# Altium schematic symbol library stm32.SchLib: 24 symbols
Pins are listed as number, name and electrical type; pins without a type are passive.

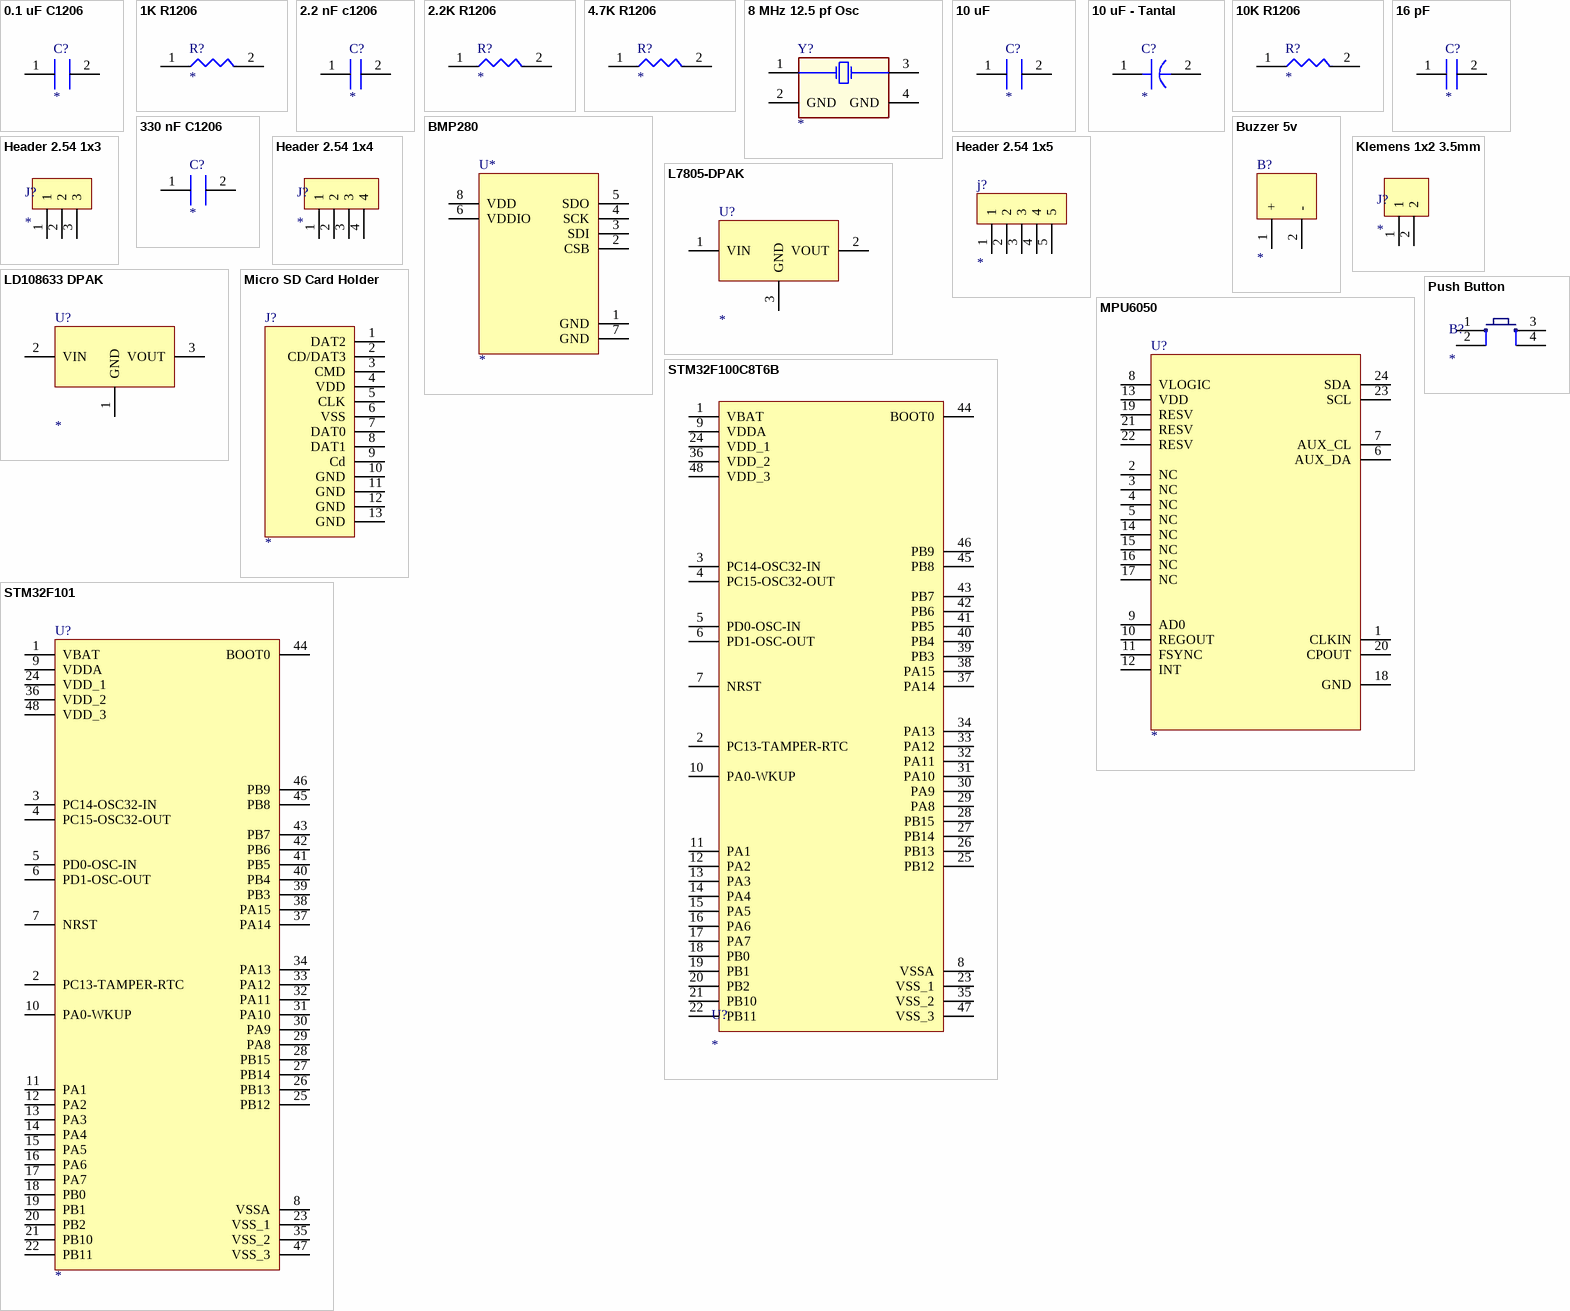
[diagram p0: symbols 0.1 uF C1206 to STM32F101]

## 0.1 uF C1206
designator C?
CAP CER 0.1UF 50V X7R 1206; Manufacturer: KEMET; Part Number: 399-C1206C104K5RAC7800TR-ND; Operating Temperature: -55°C ~ 125°C; Value: 0.1 uF; Price: $0.10
footprint C1206
pins: 1, 2

## 1K R1206
designator R?
CPF 1206 1R0 0.1% 25PPM 1K RL; Manufacturer: TE Connectivity Passive Product; Part Number: 1712-CPF1206B1R0E1TR-ND - Tape & Reel (TR); Operating Temperature: -55°C ~ 155°C; Price: $0.78; Value: 1K
footprint R1206 RESISTOR
pins: 1, 2

## 2.2 nF c1206
designator C?
CAP CER 2200PF 50V C0G/NP0 1206; Manufacturer: KEMET; Part Number: 399-C1206C222G5GAC7800TR-ND; Value: 2.2 nF; Operating Temperature: -55°C ~ 125°C; Price: $1.06
footprint C1206
pins: 1, 2

## 2.2K R1206
designator R?
CPF 1206 2R21 0.1% 25PPM 1K RL; Manufacturer: TE Connectivity Passive Product; Part Number: 1712-CPF1206B2R21E1TR-ND - Tape & Reel (TR); Value: 2.2K; Operating Temperature: -55°C ~ 155°C; Price: $0.78
footprint R1206 RESISTOR
pins: 1, 2

## 4.7K R1206
designator R?
CPF 1206 4R64 0.1% 25PPM 1K RL; Manufacturer: TE Connectivity Passive Product; Part Number: 1712-CPF1206B4R64E1TR-ND - Tape & Reel (TR); Value: 4.7K; Operating Temperature: -55°C ~ 155°C; Price: $0.78
footprint R1206 RESISTOR
pins: 1, 2

## 8 MHz 12.5 pf Osc
designator Y?
CRYSTAL 8MHZ 12.5pF SMD TR RALTRON; Part Number: RH100-8.000-12.5-20150-E; Opeating Temperature: -40°C~+85°C; Manufacturer: RALTRON; Price: $0.56
footprint 8 MHZ Osc.
pins: 1 (power) "Regulator Input Supply. Bypass IN to GND with a 1 uF or greater capacitor.", 2 GND (power) "Ground.", 3 "Enable Input. Drive EN high to turn on the regulator; drive it low to turn off the regulator. For automatic startup, connect EN to IN.", 4 GND "Connect a 1 nF or greater capacitor (10 nF is recommended) between BYP and GND to reduce the internal reference noise for low noise applications."

## 10 uF
designator C?
CAP CER 10UF 16V X7R 1206; Manufacturer: KEMET; Part Number: 399-C1206X106J4RACAUTOTR-ND; Operating Temperature: -55°C ~ 125°C; Price: $2.30; Value: 10 uF
footprint C1206
pins: 1, 2

## 10 uF - Tantal
designator C?
CAP.TANTAL 10UF 20V 20% A CASE (3216); Manufacturer: KEMET; Part Number: 399-5152-2-ND; Operating Temperature: -55°C~+125°C; Price: $0.35; Value: 10 uF
footprint C1206 - TANTAL
pins: 1, 2

## 10K R1206
designator R?
RQ 0805 10R 0.1% 10PPM 1K RL; Manufacturer: TE Connectivity Passive Product; Part Number: 1712-RQ73C2A10RBTDFTR-ND - Tape & Reel (TR); Value: 10K; Operating Temperature: -55°C ~ 155°C; Price: $1.14
footprint R1206 RESISTOR
pins: 1, 2

## 16 pF
designator C?
CAP CER 16PF 50V NP0 1206; Manufacturer: KEMET; Part Number: 399-17465-2-ND; Operating Temperature: -55°C ~ 125°C; Price: $0.41; Value: 16 pF
footprint C1206
pins: 1, 2

## 330 nF C1206
designator C?
CAP CER 0.33UF 50V X7R 1206; Manufacturer: KEMET; Part Number: 399-C1206C334K5RAC7800TR-ND; Value: 330 nF; Operating Temperature: -55°C ~ 125°C; Price: $0.66
footprint C1206
pins: 1, 2

## BMP280
designator U*
SENSOR PRESSURE ABS; Manufacturer: Bosch Sensortec; Part Number: 828-1064-2-ND; Operating Temperature: -40°C ~ 85°C; Price: $3.74
footprint BMP280
pins: 1 GND, 2 CSB, 3 SDI, 4 SCK, 5 SDO, 6 VDDIO, 7 GND, 8 VDD

## Buzzer 5v
designator B?
BUZZER MAGNETIC 5V 12MM TH; Manufacturer: CUI Devices; Part Number: 102-1124-ND; Operating Temperature: -30°C ~ 70°C; Price: $1.87
footprint BUZZER 5V
pins: 1 +, 2 -

## Header 2.54 1x3
designator J?
Header 2.54 1x3
footprint Header 2.54 1x3
pins: 1, 2, 3

## Header 2.54 1x4
designator J?
Header 2.54 1x4
footprint Header 2.54 1x4
pins: 1, 2, 3, 4

## Header 2.54 1x5
designator j?
FEMALE HEADER 5PIN(1x5) 2.54mm THT V/T TRAY; Manufacturer: KLS ELECTRONIC; Part Number: KLS1-208-1-05-S; Operating Temperature: -45°C~+105°C; Price: $0.04
footprint Header 2.54 1x5
pins: 1, 2, 3, 4, 5

## Klemens 1x2 3.5mm
designator J?
Klemens 1x2 3.5mm
footprint Klemens 1x2 3.5mm
pins: 1, 2

## L7805-DPAK
designator U?
IC REG LINEAR 5V 1.5A DPAK; Manufacturer: STMicroelectronics; Part Number: 497-7255-2-ND; Operating Temperature: 0°C ~ 125°C; Price: $1.20
footprint DPAK228P972X230-3N (D-PAK, 3-Pads, Body 6,40x6,56mm (max), IPC Medium Density)
pins: 1 VIN, 2 VOUT, 3 GND

## LD108633 DPAK
designator U?
IC REG LINEAR 3.3V 1.5A DPAK; Manufacturer: STMicroelectronics; Part Number: 497-3446-2-ND; Operating Temperature: -40°C~+125°C; Price: $1.59
footprint DPAK228P972X230-3N (D-PAK, 3-Pads, Body 6,40x6,56mm (max), IPC Medium Density)
pins: 1 GND, 2 VIN, 3 VOUT

## Micro SD Card Holder
designator J?
CONNECTOR MICRO SD CARD SMD KLS; Manufacturer: KLS ELECTRONIC; Part Number: KLS1-TF-003; Operating Temperature: -25°C~+90°C; Price: $0.30
footprint MICRO SD CARD HOLDER
pins: 1 DAT2, 2 CD/DAT3, 3 CMD, 4 VDD, 5 CLK, 6 VSS, 7 DAT0, 8 DAT1, 9 Cd, 10 GND, 11 GND, 12 GND, 13 GND

## MPU6050
designator U?
IMU ACCEL/GYRO 3-AXIS I2C 24QFN; Manufacturer: TDK InvenSense; Part Number: 1428-1007-2-ND; Operating Temperature: -40°C ~ 85°C (TA); Price: $9.11
footprint QFN50P400X400X90_HS-25N (QFN, 24-Leads, Body 4,00x4,00mm, Pitch 0,50mm, Thermal Pad 2,70x2,60mm, IPC Medium Density)
pins: 1 CLKIN, 2 NC, 3 NC, 4 NC, 5 NC, 6 AUX_DA, 7 AUX_CL, 8 VLOGIC, 9 AD0, 10 REGOUT, 11 FSYNC, 12 INT, 13 VDD, 14 NC, 15 NC, 16 NC, 17 NC, 18 GND, 19 RESV, 20 CPOUT, 21 RESV, 22 RESV, 23 SCL, 24 SDA

## Push Button
designator B?
Smd Push Button; Satın Alma Linki: https://urun.n11.com/diger/mini-pushbutton-switch-smd-P227461537?gclid=Cj0KCQjwkoDmBRCcARIsAG3xzl8Y_-jeD7HocNM6lvuZ_rVp83568XPGtNzlPwXWLph8oCRqo0yh87UaApZYEALw_wcB&gclsrc=aw.ds
footprint PUSB BUTTON-SMD
pins: 1, 2, 3, 4

## STM32F100C8T6B
designator U?
IC MCU 32BIT 64KB FLASH 48LQFP; Part Number: STM32F100C8T6B
pins: 1 VBAT, 2 PC13-TAMPER-RTC, 3 PC14-OSC32-IN, 4 PC15-OSC32-OUT, 5 PD0-OSC-IN, 6 PD1-OSC-OUT, 7 NRST, 8 VSSA, 9 VDDA, 10 PA0-WKUP, 11 PA1, 12 PA2, 13 PA3, 14 PA4, 15 PA5, 16 PA6, 17 PA7, 18 PB0, 19 PB1, 20 PB2, 21 PB10, 22 PB11, 23 VSS_1, 24 VDD_1, 25 PB12, 26 PB13, 27 PB14, 28 PB15, 29 PA8, 30 PA9, 31 PA10, 32 PA11, 33 PA12, 34 PA13, 35 VSS_2, 36 VDD_2, 37 PA14, 38 PA15, 39 PB3, 40 PB4, 41 PB5, 42 PB6, 43 PB7, 44 BOOT0, 45 PB8, 46 PB9, 47 VSS_3, 48 VDD_3

## STM32F101
designator U?
IC MCU 32BIT 64KB FLASH 48LQFP; Manufacturer: STMicroelectronics; Part Number: 497-6063-ND; Operating Temperature: -40°C ~ 85°C (TA); Price: $7.64
footprint LQFP48-STM (TSQFP, 48-Leads, Body 7,00x7,00mm, Pitch 0,50mm, IPC Medium Density)
pins: 1 VBAT, 2 PC13-TAMPER-RTC, 3 PC14-OSC32-IN, 4 PC15-OSC32-OUT, 5 PD0-OSC-IN, 6 PD1-OSC-OUT, 7 NRST, 8 VSSA, 9 VDDA, 10 PA0-WKUP, 11 PA1, 12 PA2, 13 PA3, 14 PA4, 15 PA5, 16 PA6, 17 PA7, 18 PB0, 19 PB1, 20 PB2, 21 PB10, 22 PB11, 23 VSS_1, 24 VDD_1, 25 PB12, 26 PB13, 27 PB14, 28 PB15, 29 PA8, 30 PA9, 31 PA10, 32 PA11, 33 PA12, 34 PA13, 35 VSS_2, 36 VDD_2, 37 PA14, 38 PA15, 39 PB3, 40 PB4, 41 PB5, 42 PB6, 43 PB7, 44 BOOT0, 45 PB8, 46 PB9, 47 VSS_3, 48 VDD_3